# Altium schematic symbol library imu.SchLib: 37 symbols
Pins are listed as number, name and electrical type; pins without a type are passive.

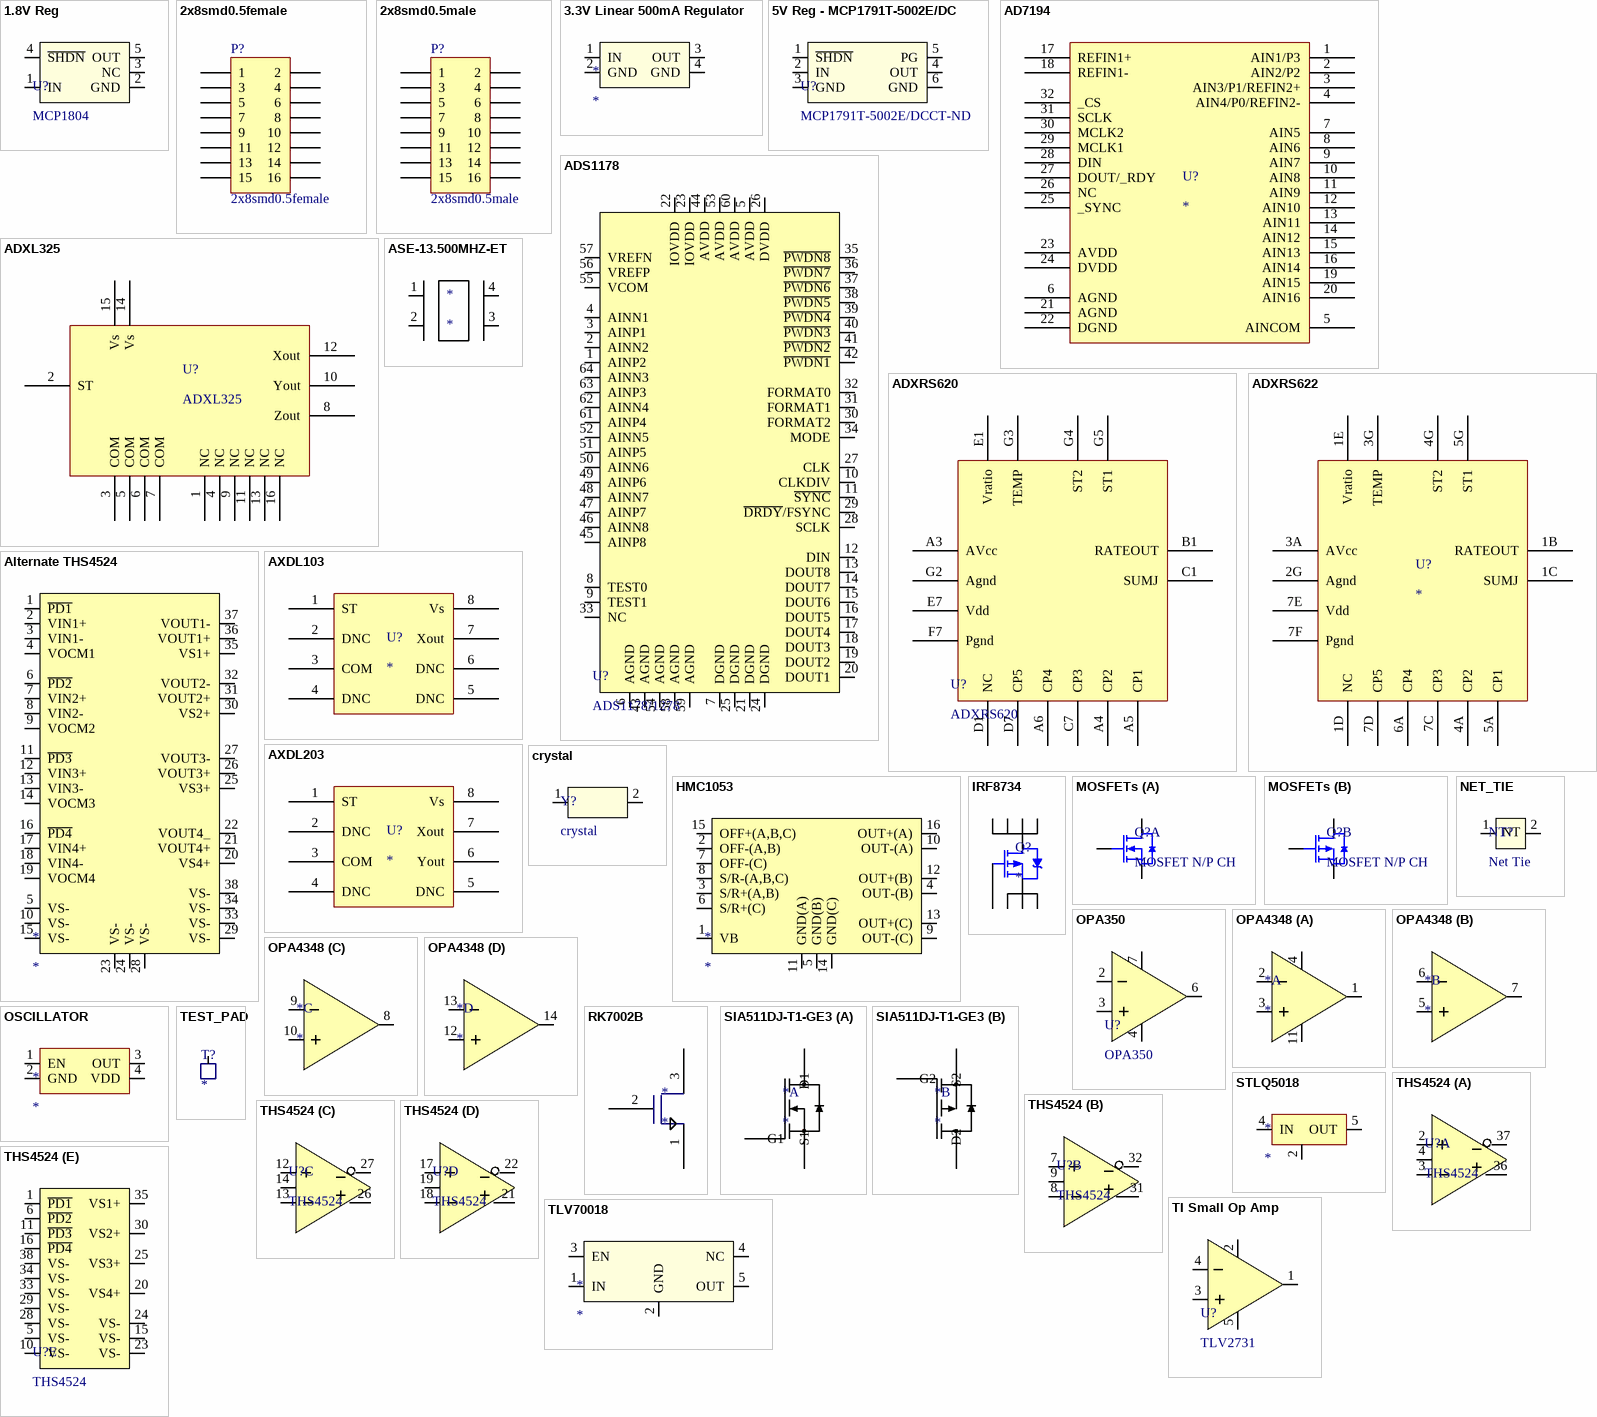
[diagram p0: symbols 1.8V Reg to TLV70018]

## 1.8V Reg
designator U?, comment MCP1804
1.8V Reg. MCP1804; Part No.: MCP1804T-1802I/OTCT-ND; Vendor: Digikey; Price Est.: $0.81
footprint SOT23-5 - MCP1804T (SOT23, 5-Leads, Body 3.1x3.2mm (max), Pitch 0.95mm, IPC Medium Density)
pins: 1 IN, 2 GND, 3 NC, 4 ~{SHDN}, 5 OUT

## 2x8smd0.5female
designator P?
Part No.: S9007E-08-ND; Vendor: Digikey; Price Est.: 1.43
signal-integrity model Connector
footprint S9007E-08-ND (16 0.05" smd header - female)
pins: 1, 2, 3, 4, 5, 6, 7, 8, 9, 10, 11, 12, 13, 14, 15, 16

## 2x8smd0.5male
designator P?
Part No.: S9013E-08-ND; Vendor: Digikey; Price Est.: 1.43
signal-integrity model Connector
footprint S9007E-08-ND (16 0.05" smd header - female)
pins: 1, 2, 3, 4, 5, 6, 7, 8, 9, 10, 11, 12, 13, 14, 15, 16

## 3.3V Linear 500mA Regulator
designator *
footprint SOT233 (Ti voltage reg) (SOT223, 4-Leads, Body 6.7x7.3mm (max), Pitch 2.30mm, IPC Medium Density)
pins: 1 IN, 2 GND, 3 OUT, 4 GND

## 5V Reg - MCP1791T-5002E/DC
designator U?, comment MCP1791T-5002E/DCCT-ND
Voltage Reg. 70mA LDO with SHDN and PWRGD pins; Vendor: Digikey; Part No.: MCP1791T-5002E/DCCT-ND; Price Est.: $0.90
footprint SOT223 - 5 leads + tab (MCP1791T-5002E/DCCT-ND Body 6.6x7.3mm (max), Pitch 1.27mm, IPC Medium Density)
pins: 1 ~{SHDN}, 2 IN, 3 GND, 4 OUT, 5 PG, 6 GND

## AD7194
designator U?
footprint LFCSP_WQ_AD7194 (From AD7194 Datasheet)
pins: 1 AIN1/P3, 2 AIN2/P2, 3 AIN3/P1/REFIN2+, 4 AIN4/P0/REFIN2-, 5 AINCOM, 6 AGND, 7 AIN5, 8 AIN6, 9 AIN7, 10 AIN8, 11 AIN9, 12 AIN10, 13 AIN11, 14 AIN12, 15 AIN13, 16 AIN14, 17 REFIN1+, 18 REFIN1-, 19 AIN15, 20 AIN16, 21 AGND, 22 DGND, 23 AVDD, 24 DVDD, 25 _SYNC, 26 NC, 27 DOUT/_RDY, 28 DIN, 29 MCLK1, 30 MCLK2, 31 SCLK, 32 _CS

## ADS1178
designator U?, comment ADS1178/1278
The ADS1178 and 1278 are pin compatible. 16 and 24 bits, respectively.
pins: 1 AINP2, 2 AINN2, 3 AINP1, 4 AINN1, 5 AVDD, 6 AGND, 7 DGND, 8 TEST0, 9 TEST1, 10 CLKDIV, 11 ~{SYNC}, 12 DIN, 13 DOUT8, 14 DOUT7, 15 DOUT6, 16 DOUT5, 17 DOUT4, 18 DOUT3, 19 DOUT2, 20 DOUT1, 21 DGND, 22 IOVDD, 23 IOVDD, 24 DGND, 25 DGND, 26 DVDD, 27 CLK, 28 SCLK, 29 ~{DRDY}/FSYNC, 30 FORMAT2, 31 FORMAT1, 32 FORMAT0, 33 NC, 34 MODE, 35 ~{PWDN8}, 36 ~{PWDN7}, 37 ~{PWDN6}, 38 ~{PWDN5}, 39 ~{PWDN4}, 40 ~{PWDN3}, 41 ~{PWDN2}, 42 ~{PWDN1}, 43 AGND, 44 AVDD, 45 AINP8, 46 AINN8, 47 AINP7, 48 AINN7, 49 AINP6, 50 AINN6, 51 AINP5, 52 AINN5, 53 AVDD, 54 AGND, 55 VCOM, 56 VREFP, 57 VREFN, 58 AGND, 59 AGND, 60 AVDD, 61 AINP4, 62 AINN4, 63 AINP3, 64 AINN3

## ADXL325
designator U?
footprint LFCSP_LQ_AXDL
pins: 1 NC, 2 ST, 3 COM, 4 NC, 5 COM, 6 COM, 7 COM, 8 Zout, 9 NC, 10 Yout, 11 NC, 12 Xout, 13 NC, 14 Vs, 15 Vs, 16 NC

## ADXRS620
designator U?
footprint BGA_AXDR (From AXDRS622 Datasheet)
pins: A3 AVcc, A4 CP2, A5 CP1, A6 CP4, B1 RATEOUT, C1 SUMJ, C7 CP3, D1 NC, D7 CP5, E1 Vratio, E7 Vdd, F7 Pgnd, G2 Agnd, G3 TEMP, G4 ST2, G5 ST1

## ADXRS622
designator U?
footprint BGA_AXDR (From AXDRS622 Datasheet)
pins: 1B RATEOUT, 1C SUMJ, 1D NC, 1E Vratio, 2G Agnd, 3A AVcc, 3G TEMP, 4A CP2, 4G ST2, 5A CP1, 5G ST1, 6A CP4, 7C CP3, 7D CP5, 7E Vdd, 7F Pgnd

## Alternate THS4524
designator *
pins: 1 ~{PD1}, 2 VIN1+, 3 VIN1-, 4 VOCM1, 5 VS-, 6 ~{PD2}, 7 VIN2+, 8 VIN2-, 9 VOCM2, 10 VS-, 11 ~{PD3}, 12 VIN3+, 13 VIN3-, 14 VOCM3, 15 VS-, 16 ~{PD4}, 17 VIN4+, 18 VIN4-, 19 VOCM4, 20 VS4+, 21 VOUT4+, 22 VOUT4_, 23 VS-, 24 VS-, 25 VS3+, 26 VOUT3+, 27 VOUT3-, 28 VS-, 29 VS-, 30 VS2+, 31 VOUT2+, 32 VOUT2-, 33 VS-, 34 VS-, 35 VS1+, 36 VOUT1+, 37 VOUT1-, 38 VS-

## ASE-13.500MHZ-ET
designator *
pins: 1, 2, 3, 4

## AXDL103
designator U?
Part No.: AXDL103
footprint CLCC (from ADXL103)
pins: 1 ST, 2 DNC, 3 COM, 4 DNC, 5 DNC, 6 DNC, 7 Xout, 8 Vs

## AXDL203
designator U?
footprint CLCC (from ADXL103)
pins: 1 ST, 2 DNC, 3 COM, 4 DNC, 5 DNC, 6 Yout, 7 Xout, 8 Vs

## crystal
designator Y?
pins: 1, 2

## HMC1053
designator *
pins: 1 VB, 2 OFF-(A,B), 3 S/R+(A,B), 4 OUT-(B), 5 GND(B), 6 S/R+(C), 7 OFF-(C), 8 S/R-(A,B,C), 9 OUT-(C), 10 OUT-(A), 11 GND(A), 12 OUT+(B), 13 OUT+(C), 14 GND(C), 15 OFF+(A,B,C), 16 OUT+(A)

## IRF8734
designator Q?
footprint SO8 (M8.15 (JEDEC MS-012-AA ISSUE C)  8 LEAD NARROW BODY SMALL OUTLINE PLASTIC  PACKAGE)
pins: 1 S, 2 S, 3 S, 4 G, 5 D, 7 D, 7 D, 8 D

## MOSFETs
designator Q?, comment MOSFET N/P CH
Part No.: SI1035X-T1-E3CT-ND; Manufacturer: Vishay Siliconx; Vendor: Digikey
footprint SOT563F (SOT23, 6-Leads, Body 1.7x1.7mm (max), Pitch 0.50mm, IPC Medium Density)
part A pins: 1 S1, 2 G1, 6 D1
part B pins: 3 D2, 4 S2, 5 G2

## NET_TIE
designator NT?, comment Net Tie  (net tie, no BOM)
footprint NET_TIE (Used to connect 2 nets)
pins: 1, 2
text: NT

## OPA350
designator U?
footprint MSOP-8 (MSOP-8 From OPA350 datasheet)
pins: 2 -IN, 3 +IN, 4 V-, 6 Out, 7 V+

## OPA4348
designator *
footprint TSSOP-14 (SOP, 14-Leads, Body 8.8x4.0mm (max), Pitch 1.27mm, IPC Medium Density)
part A pins: 1 Out, 2 -IN, 3 +IN, 4 V+, 11 V-
part B pins: 5 +IN, 6 -IN, 7 Out
part C pins: 8 Out, 9 -IN, 10 +IN
part D pins: 12 +IN, 13 -IN, 14 Out

## OSCILLATOR
designator *
footprint FOX-HC73 (footprint for oscillator)
footprint ABRACON Oscillator
pins: 1 EN, 2 GND, 3 OUT, 4 VDD

## RK7002B
designator *
footprint SOT-23-RK7002B (SOT-23; 3 Leads; Body 3.0 x 2.6 mm, inc. leads (LxW max))
pins: 1 S, 2 G, 3 D

## SIA511DJ-T1-GE3
designator *
part A pins: 1 S1, 2 G1, 6 D1
part B pins: 3 D2, 4 S2, 5 G2

## STLQ5018
designator *
footprint SOT323-5L (STLQ50XX)
pins: 2 GND, 4 IN, 5 OUT

## TEST_PAD
designator T?
footprint TEST_PAD
pins: 0

## THS4524
designator U?
footprint TSSOP-38 (THS4524)
part A pins: 2 VIN1+, 3 VIN1-, 4 VOCM1, 36 VOUT1+, 37 VOUT1-
part B pins: 7 VIN2+, 8 VIN2-, 9 VOCM2, 31 VOUT2+, 32 VOUT2-
part C pins: 12 VIN3+, 13 VIN3-, 14 VOCM3, 26 VOUT3+, 27 VOUT3-
part D pins: 17 VIN4+, 18 VIN4-, 19 VOCM4, 21 VOUT4+, 22 VOUT4_
part E pins: 1 ~{PD1}, 5 VS-, 6 ~{PD2}, 10 VS-, 11 ~{PD3}, 15 VS-, 16 ~{PD4}, 20 VS4+, 23 VS-, 24 VS-, 25 VS3+, 28 VS-, 29 VS-, 30 VS2+, 33 VS-, 34 VS-, 35 VS1+, 38 VS-

## TI Small Op Amp
designator U?, comment TLV2731
Part No.: 296-10656-1-ND; Manufacturer: Texas Instruments; Vendor: Digikey; Price Est.: $1.41
footprint SOT23-5 Ti Op Amp (296-10656-1-ND    SOT23, 5-Leads, Body 3.1x3.0mm (max), Pitch 0.95mm, IPC Medium Density)
pins: 1 Out, 2 V+, 3 +IN, 4 -IN, 5 V-

## TLV70018
designator *
footprint SOT23-5 (SOT23, 5-Leads, Body 3.0x3.0mm (max), Pitch 0.95mm, IPC Medium Density)
pins: 1 IN, 2 GND, 3 EN, 4 NC, 5 OUT

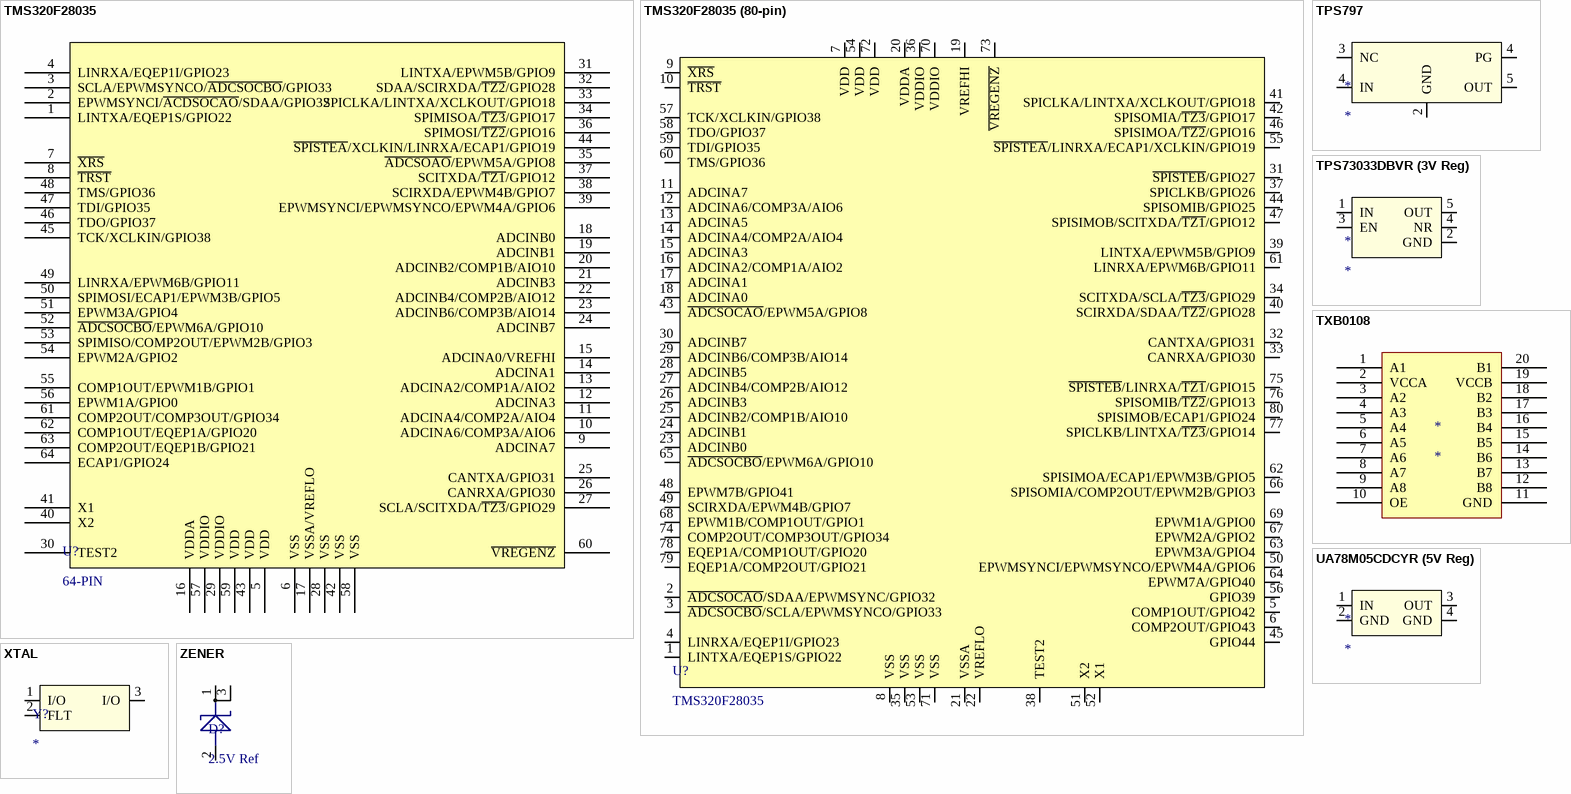
[diagram p1: symbols TMS320F28035 to ZENER]

## TMS320F28035
designator U?, comment 64-PIN
footprint S-PQFP-G64_TMS320f28035 (From TMS320f28035 datasheet (64-pin))
pins: 1 LINTXA/EQEP1S/GPIO22, 2 EPWMSYNCI/~{ACDSOCAO}/SDAA/GPIO32, 3 SCLA/EPWMSYNCO/~{ADCSOCBO}/GPIO33, 4 LINRXA/EQEP1I/GPIO23, 5 VDD, 6 VSS, 7 ~{XRS}, 8 ~{TRST}, 9 ADCINA7, 10 ADCINA6/COMP3A/AIO6, 11 ADCINA4/COMP2A/AIO4, 12 ADCINA3, 13 ADCINA2/COMP1A/AIO2, 14 ADCINA1, 15 ADCINA0/VREFHI, 16 VDDA, 17 VSSA/VREFLO, 18 ADCINB0, 19 ADCINB1, 20 ADCINB2/COMP1B/AIO10, 21 ADCINB3, 22 ADCINB4/COMP2B/AIO12, 23 ADCINB6/COMP3B/AIO14, 24 ADCINB7, 25 CANTXA/GPIO31, 26 CANRXA/GPIO30, 27 SCLA/SCITXDA/~{TZ3}/GPIO29, 28 VSS, 29 VDDIO, 30 TEST2, 31 LINTXA/EPWM5B/GPIO9, 32 SDAA/SCIRXDA/~{TZ2}/GPIO28, 33 SPICLKA/LINTXA/XCLKOUT/GPIO18, 34 SPIMISOA/~{TZ3}/GPIO17, 35 ~{ADCSOAO}/EPWM5A/GPIO8, 36 SPIMOSI/~{TZ2}/GPIO16, 37 SCITXDA/~{TZ1}/GPIO12, 38 SCIRXDA/EPWM4B/GPIO7, 39 EPWMSYNCI/EPWMSYNCO/EPWM4A/GPIO6, 40 X2, 41 X1, 42 VSS, 43 VDD, 44 ~{SPISTEA}/XCLKIN/LINRXA/ECAP1/GPIO19, 45 TCK/XCLKIN/GPIO38, 46 TDO/GPIO37, 47 TDI/GPIO35, 48 TMS/GPIO36, 49 LINRXA/EPWM6B/GPIO11, 50 SPIMOSI/ECAP1/EPWM3B/GPIO5, 51 EPWM3A/GPIO4, 52 ~{ADCSOCBO}/EPWM6A/GPIO10, 53 SPIMISO/COMP2OUT/EPWM2B/GPIO3, 54 EPWM2A/GPIO2, 55 COMP1OUT/EPWM1B/GPIO1, 56 EPWM1A/GPIO0, 57 VDDIO, 58 VSS, 59 VDD, 60 ~{VREGENZ}, 61 COMP2OUT/COMP3OUT/GPIO34, 62 COMP1OUT/EQEP1A/GPIO20, 63 COMP2OUT/EQEP1B/GPIO21, 64 ECAP1/GPIO24

## TMS320F28035 (80-pin)
designator U?, comment TMS320F28035
80-pin
pins: 1 LINTXA/EQEP1S/GPIO22, 2 ~{ADCSOCAO}/SDAA/EPWMSYNC/GPIO32, 3 ~{ADCSOCBO}/SCLA/EPWMSYNCO/GPIO33, 4 LINRXA/EQEP1I/GPIO23, 5 COMP1OUT/GPIO42, 6 COMP2OUT/GPIO43, 7 VDD, 8 VSS, 9 ~{XRS}, 10 ~{TRST}, 11 ADCINA7, 12 ADCINA6/COMP3A/AIO6, 13 ADCINA5, 14 ADCINA4/COMP2A/AIO4, 15 ADCINA3, 16 ADCINA2/COMP1A/AIO2, 17 ADCINA1, 18 ADCINA0, 19 VREFHI, 20 VDDA, 21 VSSA, 22 VREFLO, 23 ADCINB0, 24 ADCINB1, 25 ADCINB2/COMP1B/AIO10, 26 ADCINB3, 27 ADCINB4/COMP2B/AIO12, 28 ADCINB5, 29 ADCINB6/COMP3B/AIO14, 30 ADCINB7, 31 ~{SPISTEB}/GPIO27, 32 CANTXA/GPIO31, 33 CANRXA/GPIO30, 34 SCITXDA/SCLA/~{TZ3}/GPIO29, 35 VSS, 36 VDDIO, 37 SPICLKB/GPIO26, 38 TEST2, 39 LINTXA/EPWM5B/GPIO9, 40 SCIRXDA/SDAA/~{TZ2}/GPIO28, 41 SPICLKA/LINTXA/XCLKOUT/GPIO18, 42 SPISOMIA/~{TZ3}/GPIO17, 43 ~{ADCSOCAO}/EPWM5A/GPIO8, 44 SPISOMIB/GPIO25, 45 GPIO44, 46 SPISIMOA/~{TZ2}/GPIO16, 47 SPISIMOB/SCITXDA/~{TZ1}/GPIO12, 48 EPWM7B/GPIO41, 49 SCIRXDA/EPWM4B/GPIO7, 50 EPWMSYNCI/EPWMSYNCO/EPWM4A/GPIO6, 51 X2, 52 X1, 53 VSS, 54 VDD, 55 ~{SPISTEA}/LINRXA/ECAP1/XCLKIN/GPIO19, 56 GPIO39, 57 TCK/XCLKIN/GPIO38, 58 TDO/GPIO37, 59 TDI/GPIO35, 60 TMS/GPIO36, 61 LINRXA/EPWM6B/GPIO11, 62 SPISIMOA/ECAP1/EPWM3B/GPIO5, 63 EPWM3A/GPIO4, 64 EPWM7A/GPIO40, 65 ~{ADCSOCBO}/EPWM6A/GPIO10, 66 SPISOMIA/COMP2OUT/EPWM2B/GPIO3, 67 EPWM2A/GPIO2, 68 EPWM1B/COMP1OUT/GPIO1, 69 EPWM1A/GPIO0, 70 VDDIO, 71 VSS, 72 VDD, 73 ~{VREGENZ}, 74 COMP2OUT/COMP3OUT/GPIO34, 75 ~{SPISTEB}/LINRXA/~{TZ1}/GPIO15, 76 SPISOMIB/~{TZ2}/GPIO13, 77 SPICLKB/LINTXA/~{TZ3}/GPIO14, 78 EQEP1A/COMP1OUT/GPIO20, 79 EQEP1A/COMP2OUT/GPIO21, 80 SPISIMOB/ECAP1/GPIO24

## TPS797
designator *
footprint SOT23-5 Ti TPS797 (SOT23, 5-Leads, Body 2.2x2.4mm (max), Pitch 0.65mm, IPC Medium Density)
pins: 2 GND, 3 NC, 4 IN, 4 PG, 5 OUT

## TPS73033DBVR (3V Reg)
designator *
footprint SOT23-5 (Ti 3.3V Reg) (SOT23, 5-Leads, Body 3.0x3.0mm (max), Pitch 0.95mm, IPC Medium Density)
pins: 1 IN, 2 GND, 3 EN, 4 NR, 5 OUT

## TXB0108
designator *
footprint TSSOP-20
pins: 1 A1, 2 VCCA (power), 3 A2, 4 A3, 5 A4, 6 A5, 7 A6, 8 A7, 9 A8, 10 OE, 11 GND (power), 12 B8, 13 B7, 14 B6, 15 B5, 16 B4, 17 B3, 18 B2, 19 VCCB (power), 20 B1

## UA78M05CDCYR (5V Reg)
designator *
footprint SOT233 (Ti voltage reg) (SOT223, 4-Leads, Body 6.7x7.3mm (max), Pitch 2.30mm, IPC Medium Density)
pins: 1 IN, 2 GND, 3 OUT, 4 GND

## XTAL
designator Y?
footprint Murata XTAL (490-5588-1-ND)
pins: 1 I/O, 2 FLT, 3 I/O

## ZENER
designator D?, comment 2.5V Ref
2.5 volt ref; Part No.: ADR525BKSZ-REEL7CT-ND; Manufacturer: Analog Devices; Vendor: Digikey; Price Est.: $2.20
footprint SC-70 (SC-70, for ADR525BKSZ-REEL7CT-ND zener reference 3-Leads, Body 2.2x2.4mm (max), Pitch 0.65mm, IPC Medium Density)
pins: 1 Cathode, 2 Anode, 3 Trim